# EAGLE library part ATTINY816 (library can-library)
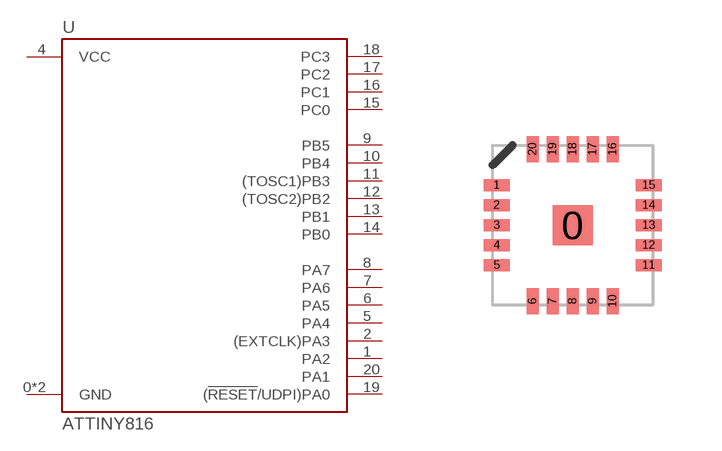
[diagram p5: symbol with the pads of QFN20; footprint QFN20]

Designator prefix U

## ATTINY816M  [QFN20]
0  GND
1  PA2
2  (EXTCLK)PA3
3  GND
4  VCC
5  PA4
6  PA5
7  PA6
8  PA7
9  PB5
10  PB4
11  (TOSC1)PB3
12  (TOSC2)PB2
13  PB1
14  PB0
15  PC0
16  PC1
17  PC2
18  PC3
19  (!RESET!/UDPI)PA0
20  PA1

## Footprint QFN20 (pad centres in mm)
smd 1 x 1: 0 0,0
smd 0.65 x 0.3: 1 -1.9,1; 2 -1.9,0.5; 3 -1.9,0; 4 -1.9,-0.5; 5 -1.9,-1; 11 1.9,-1; 12 1.9,-0.5; 13 1.9,0; 14 1.9,0.5; 15 1.9,1
smd 0.3 x 0.65: 6 -1,-1.9; 7 -0.5,-1.9; 8 0,-1.9; 9 0.5,-1.9; 10 1,-1.9; 16 1,1.9; 17 0.5,1.9; 18 0,1.9; 19 -0.5,1.9; 20 -1,1.9